# EAGLE library part MSP430FR2476TPTR (library WatchDawg - MSP430)
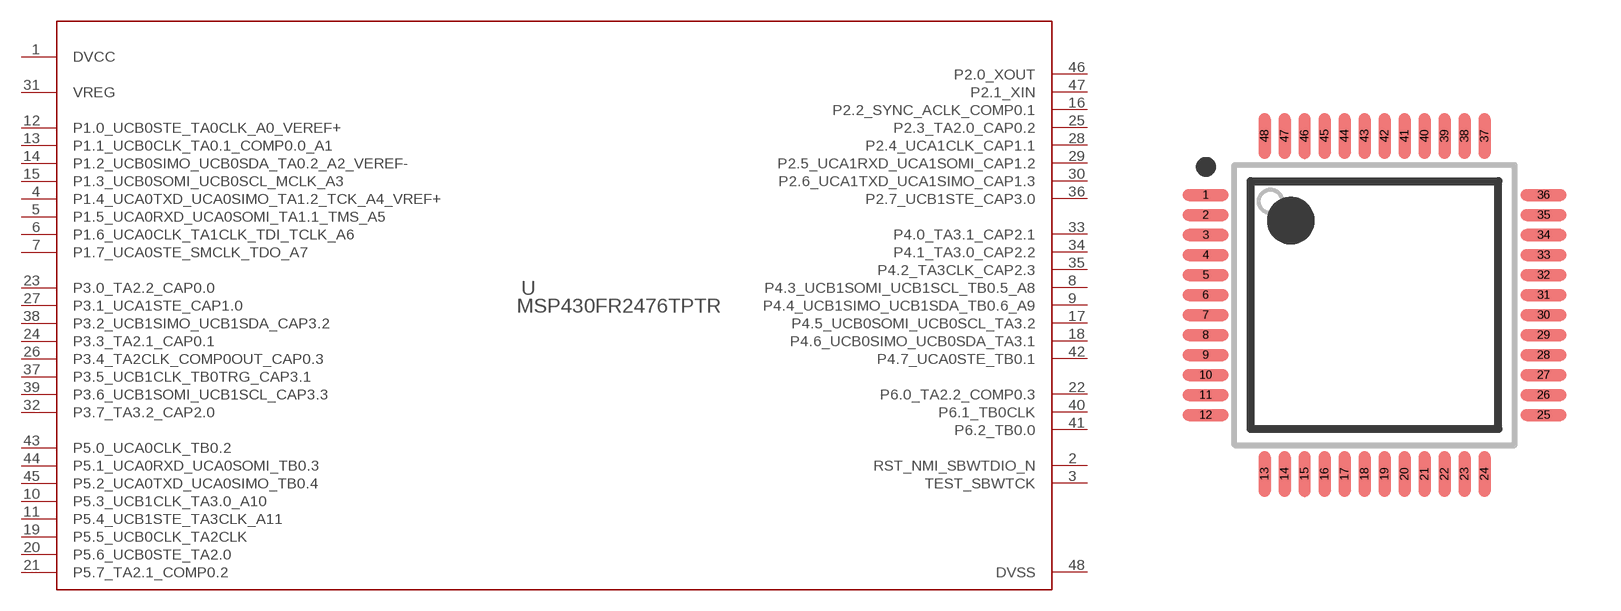
[diagram p0: symbol with the pads of PT0048A_N; footprint PT0048A_N]

Designator prefix U

## MSP430FR2476TPTR (MANUFACTURER: Texas Instruments; PARTNUMBER: MSP430FR2476TPTR; REFDES: RefDes; TYPE: TYPE; VALUE: Value)  [PT0048A_N]
1  DVCC  pwr
2  RST_NMI_SBWTDIO_N
3  TEST_SBWTCK  in
4  P1.4_UCA0TXD_UCA0SIMO_TA1.2_TCK_A4_VREF+
5  P1.5_UCA0RXD_UCA0SOMI_TA1.1_TMS_A5
6  P1.6_UCA0CLK_TA1CLK_TDI_TCLK_A6
7  P1.7_UCA0STE_SMCLK_TDO_A7
8  P4.3_UCB1SOMI_UCB1SCL_TB0.5_A8
9  P4.4_UCB1SIMO_UCB1SDA_TB0.6_A9
10  P5.3_UCB1CLK_TA3.0_A10
11  P5.4_UCB1STE_TA3CLK_A11
12  P1.0_UCB0STE_TA0CLK_A0_VEREF+
13  P1.1_UCB0CLK_TA0.1_COMP0.0_A1
14  P1.2_UCB0SIMO_UCB0SDA_TA0.2_A2_VEREF-
15  P1.3_UCB0SOMI_UCB0SCL_MCLK_A3
16  P2.2_SYNC_ACLK_COMP0.1
17  P4.5_UCB0SOMI_UCB0SCL_TA3.2
18  P4.6_UCB0SIMO_UCB0SDA_TA3.1
19  P5.5_UCB0CLK_TA2CLK
20  P5.6_UCB0STE_TA2.0
21  P5.7_TA2.1_COMP0.2
22  P6.0_TA2.2_COMP0.3
23  P3.0_TA2.2_CAP0.0
24  P3.3_TA2.1_CAP0.1
25  P2.3_TA2.0_CAP0.2
26  P3.4_TA2CLK_COMP0OUT_CAP0.3
27  P3.1_UCA1STE_CAP1.0
28  P2.4_UCA1CLK_CAP1.1
29  P2.5_UCA1RXD_UCA1SOMI_CAP1.2
30  P2.6_UCA1TXD_UCA1SIMO_CAP1.3
31  VREG  pwr
32  P3.7_TA3.2_CAP2.0
33  P4.0_TA3.1_CAP2.1
34  P4.1_TA3.0_CAP2.2
35  P4.2_TA3CLK_CAP2.3
36  P2.7_UCB1STE_CAP3.0
37  P3.5_UCB1CLK_TB0TRG_CAP3.1
38  P3.2_UCB1SIMO_UCB1SDA_CAP3.2
39  P3.6_UCB1SOMI_UCB1SCL_CAP3.3
40  P6.1_TB0CLK
41  P6.2_TB0.0
42  P4.7_UCA0STE_TB0.1
43  P5.0_UCA0CLK_TB0.2
44  P5.1_UCA0RXD_UCA0SOMI_TB0.3
45  P5.2_UCA0TXD_UCA0SIMO_TB0.4
46  P2.0_XOUT
47  P2.1_XIN
48  DVSS  pwr

## Footprint PT0048A_N (pad centres in mm)
smd 1.15 x 0.3: 1 -4.225,2.75; 2 -4.225,2.25; 3 -4.225,1.75; 4 -4.225,1.25; 5 -4.225,0.75; 6 -4.225,0.25; 7 -4.225,-0.25; 8 -4.225,-0.75; 9 -4.225,-1.25; 10 -4.225,-1.75; 11 -4.225,-2.25; 12 -4.225,-2.75; 25 4.225,-2.75; 26 4.225,-2.25; 27 4.225,-1.75; 28 4.225,-1.25; 29 4.225,-0.75; 30 4.225,-0.25; 31 4.225,0.25; 32 4.225,0.75; 33 4.225,1.25; 34 4.225,1.75; 35 4.225,2.25; 36 4.225,2.75
smd 0.3 x 1.15: 13 -2.75,-4.225; 14 -2.25,-4.225; 15 -1.75,-4.225; 16 -1.25,-4.225; 17 -0.75,-4.225; 18 -0.25,-4.225; 19 0.25,-4.225; 20 0.75,-4.225; 21 1.25,-4.225; 22 1.75,-4.225; 23 2.25,-4.225; 24 2.75,-4.225; 37 2.75,4.225; 38 2.25,4.225; 39 1.75,4.225; 40 1.25,4.225; 41 0.75,4.225; 42 0.25,4.225; 43 -0.25,4.225; 44 -0.75,4.225; 45 -1.25,4.225; 46 -1.75,4.225; 47 -2.25,4.225; 48 -2.75,4.225